# Altium integrated library DAC1220E.IntLib: 1 symbol
Pins are listed as number, name and electrical type; pins without a type are passive.

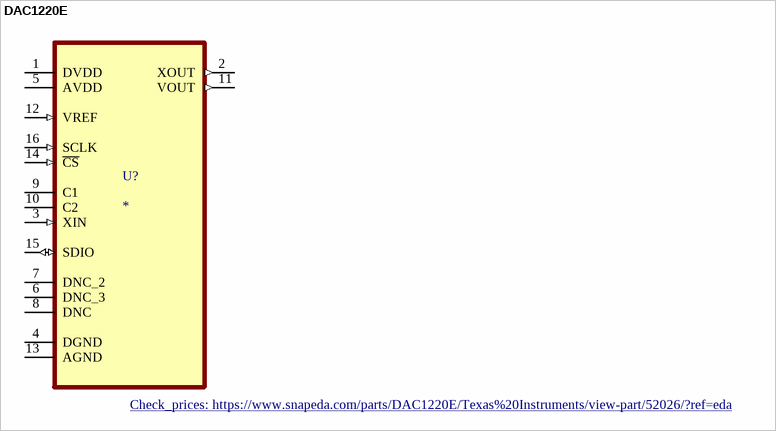
[diagram p0: symbol DAC1220E]

## DAC1220E
designator U?
20-Bit Delta-Sigma Low Power Digital-To-Analog Converter 16-SSOP -40 to 85; MP: DAC1220E; MF: Texas Instruments; Package: SSOP-16 Texas Instruments; Purchase-URL: https://pricing.snapeda.com/search/part/DAC1220E/?ref=eda; Price: None; Value: *; SnapEDA_Link: https://www.snapeda.com/parts/DAC1220E/Texas%20Instruments/view-part/52026/?ref=snap; Availability: Warning; Check_prices: https://www.snapeda.com/parts/DAC1220E/Texas%20Instruments/view-part/52026/?ref=eda
footprint SOP63P600X175-16N
pins: 1 DVDD (power), 2 XOUT (out), 3 XIN (in), 4 DGND, 5 AVDD (power), 6 DNC_3, 7 DNC_2, 8 DNC, 9 C1, 10 C2, 11 VOUT (out), 12 VREF (in), 13 AGND, 14 ~{CS} (in), 15 SDIO (io), 16 SCLK (in)